# EAGLE library part PESD3V3S4UD (library diodes)
TVS DIODE 3.3VWM 12VC 6TSOP
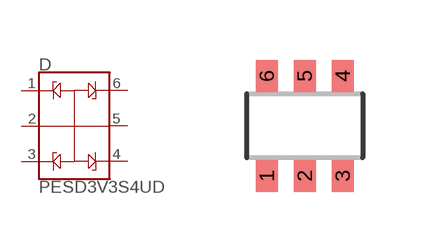
[diagram p0: symbol with the pads of SOT457; footprint SOT457]

Designator prefix D

## PESD3V3S4UD (DIGIKEY: 568-4266-1-ND; MPN: PESD3V3S4UD,115; P1I: o)  [SOT457]
1  P$1
2  P$2
3  P$3
4  P$4
5  P$5
6  P$6

## Footprint SOT457 (pad centres in mm)
Small Outline Transistor; 6 leads TSSOP-6, SOT457 (SC-74)
smd 0.55 x 0.8: 1 -0.95,-1.25; 2 0,-1.25; 3 0.95,-1.25; 4 0.95,1.25; 5 0,1.25; 6 -0.95,1.25